# EAGLE library part ADS8864 (library EW_IC-ADC-DAC)
16bit ADC, SPI Compatible (not exactly SPI)
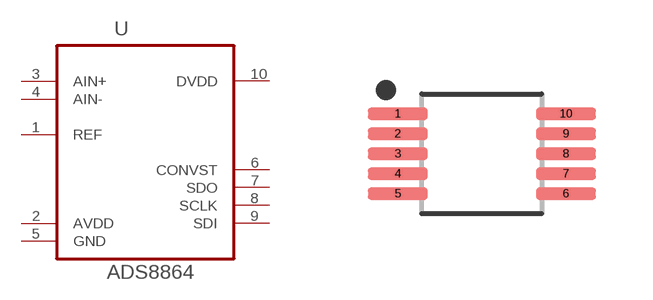
[diagram p0: symbol with the pads of VSSOP_10; footprint VSSOP_10]

Designator prefix U

## ADS8864IDG  [VSSOP_10]
1  REF  in
2  AVDD  pwr
3  AIN+  in
4  AIN-  in
5  GND  pas
6  CONVST  in
7  SDO  out
8  SCLK  in
9  SDI  in
10  DVDD  out

## Footprint VSSOP_10 (pad centres in mm)
smd 1.5 x 0.3: 1 -2.105,1; 2 -2.105,0.5; 3 -2.105,0; 4 -2.105,-0.5; 5 -2.105,-1; 6 2.105,-1; 7 2.105,-0.5; 8 2.105,0; 9 2.105,0.5; 10 2.105,1